# EAGLE library part MAX3485CSA+T (library my-MaximIntegrated)
RS-422/RS-485 Interface IC 3.3V Powered, 10Mbps and Slew-Rate Limited, True RS-485/RS-422 Transceivers
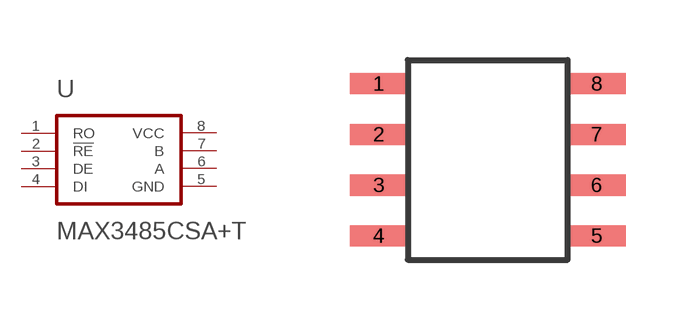
[diagram p0: symbol with the pads of SOIC-8; footprint SOIC-8]

Designator prefix -

## MAX3485CSA+T  [SOIC-8]
1  RO
2  !RE
3  DE
4  DI
5  GND
6  A
7  B
8  VCC

## Footprint SOIC-8 (pad centres in mm)
smd 1.45 x 0.53: 1 -2.725,1.905; 2 -2.725,0.635; 3 -2.725,-0.635; 4 -2.725,-1.905; 5 2.725,-1.905; 6 2.725,-0.635; 7 2.725,0.635; 8 2.725,1.905